# EAGLE library part LSM9DS1 (library UpBoard B)
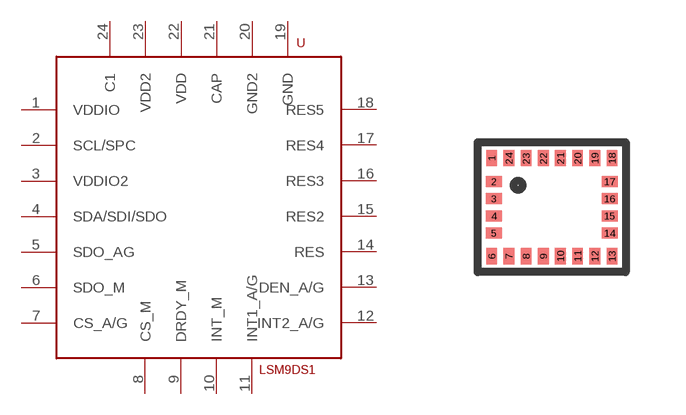
[diagram p1: symbol with the pads of LSM9DS1; footprint LSM9DS1]

Designator prefix -

## LSM9DS1  [LSM9DS1]
1  VDDIO
2  SCL/SPC
3  VDDIO2
4  SDA/SDI/SDO
5  SDO_AG
6  SDO_M
7  CS_A/G
8  CS_M
9  DRDY_M
10  INT_M
11  INT1_A/G
12  INT2_A/G
13  DEN_A/G
14  RES
15  RES2
16  RES3
17  RES4
18  RES5
19  GND
20  GND2
21  CAP
22  VDD
23  VDD2
24  C1

## Footprint LSM9DS1 (pad centres in mm)
LSM9DS1 MEMS Accelerometer, Gyroscope, Magnetometer
smd 0.27 x 0.4: 1 0,2.45; 6 0,0; 7 0.43,0; 8 0.86,0; 9 1.29,0; 10 1.72,0; 11 2.15,0; 12 2.58,0; 13 3.01,0; 18 3.01,2.45; 19 2.58,2.45; 20 2.15,2.45; 21 1.72,2.45; 22 1.29,2.45; 23 0.86,2.45; 24 0.43,2.45
smd 0.4 x 0.27: 2 0.06,1.87; 3 0.06,1.44; 4 0.06,1.01; 5 0.06,0.58; 14 2.95,0.58; 15 2.95,1.01; 16 2.95,1.44; 17 2.95,1.87